# Altium schematic symbol library SolarCharger.SchLib: 27 symbols
Pins are listed as number, name and electrical type; pins without a type are passive.

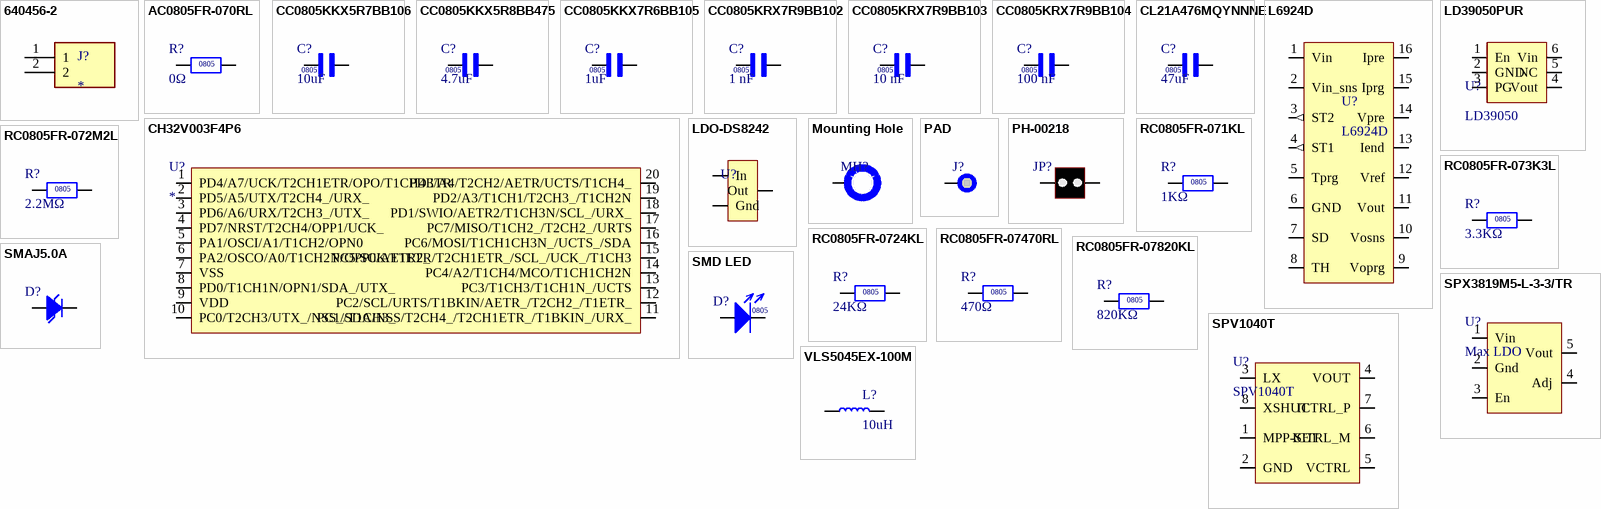
[diagram p0: symbols 640456-2 to VLS5045EX-100M]

## 640456-2
designator J?
1x2P 1 2.54mm 2 Copper Alloy Plugin,P=2.54mm Wire To Board / Wire To Wire Connector; Manufacturer: TE; Manufacturer Part Number: 640456-2; Supplier: LCSC; Supplier Part Number: C86502; Price: 0.0711; ComponentLink1Description: TE Connector; ComponentLink1URL: https://datasheet.lcsc.com/lcsc/2304140030_TE-Connectivity-640456-2_C86502.pdf
footprint TE_640456-2
pins: 1, 2

## AC0805FR-070RL
designator R?, comment 0Ω  Form: 0805
0 Ohm, 1%, 0.125W, 0805; Manufacturer: Yageo; Manufacturer Part Number: AC0805FR-070RL; Supplier: LCSC; Supplier Part Number: C174076; Price: 0.0039; ComponentLink1Description: Yageo Resistros; ComponentLink1URL: https://datasheet.lcsc.com/lcsc/2304140030_YAGEO-AC0805FR-070RL_C174076.pdf
footprint YAGEO-0805-R-L (Yageo Resistor Large Footprint)
pins: 1, 2

## CC0805KKX5R7BB106
designator C?, comment 10uF  Form: 0805
10 uF, 16 V, ± 10%, X5R, 0805; Manufacturer: Yageo; Manufacturer Part Number: CC0805KKX5R7BB106; ComponentLink5URL: http://www.yageo.com/documents/recent/UPY-GPHC_X5R_4V-to-50V_12.pdf?src-supplier=Avnet; ComponentLink5Description: Yageo Capacitors; Supplier: LCSC; Supplier Part Number: C89827; Price: 0.0419
footprint YAGEO-0805-C-L (Yageo Large Footprint)
pins: 1, 2

## CC0805KKX5R8BB475
designator C?, comment 4.7uF  Form: 0805
4.7 uF, 50 V, ± 10%, X5R, 0805; Manufacturer: Yageo; Manufacturer Part Number: CC0805KKX5R8BB475; ComponentLink1URL: https://datasheet.lcsc.com/lcsc/2304140030_YAGEO-CC0805KKX5R8BB475_C132173.pdf; ComponentLink1Description: Yageo Capacitors; Supplier: LCSC; Supplier Part Number: C132173; Price: 0.0335
footprint YAGEO-0805-C-L (Yageo Large Footprint)
pins: 1, 2

## CC0805KKX7R6BB105
designator C?, comment 1uF  Form: 0805
1 uF, 10 V, ± 10%, X7R, 0805; Manufacturer: Yageo; Manufacturer Part Number: CC0805KKX7R6BB105; ComponentLink10URL: https://datasheet.lcsc.com/lcsc/2007101233_YAGEO-CC0805KKX7R6BB105_C519973.pdf; ComponentLink10Description: Yageo Capacitors; Supplier: LSCS; Supplier Part Number: C519973; Price: 0.0116
footprint YAGEO-0805-C-L (Yageo Large Footprint)
pins: 1, 2

## CC0805KRX7R9BB102
designator C?, comment 1 nF  Form: 0805
1 nF,  50V, 10%, X7R, 0805; Manufacturer: Yageo; Manufacturer Part Number: CC0805KRX7R9BB102; ComponentLink6URL: https://datasheet.lcsc.com/lcsc/1810311439_YAGEO-CC0805KRX7R9BB102_C94121.pdf; ComponentLink6Description: Yageo Capacitors; Supplier: LCSC; Supplier Part Number: C94121; Price: 0.0047
footprint YAGEO-0805-C-L (Yageo Large Footprint)
pins: 1, 2

## CC0805KRX7R9BB103
designator C?, comment 10 nF  Form: 0805
10 nF, 50 V, ± 10%, X7R, 0805; Manufacturer: Yageo; Manufacturer Part Number: CC0805KRX7R9BB103; ComponentLink5URL: https://datasheet.lcsc.com/lcsc/2304140030_YAGEO-CC0805KRX7R9BB103_C83170.pdf; ComponentLink5Description: Yageo Capacitors; Supplier: LCSC; Supplier Part Number: C83170; Price: 0.0050
footprint YAGEO-0805-C-L (Yageo Large Footprint)
pins: 1, 2

## CC0805KRX7R9BB104
designator C?, comment 100 nF  Form: 0805
100 nF, 50 V, ± 10%, X7R, 0805; Manufacturer: Yageo; Manufacturer Part Number: CC0805KRX7R9BB104; ComponentLink1URL: https://datasheet.lcsc.com/lcsc/2304140030_YAGEO-CC0805KRX7R9BB104_C49678.pdf; ComponentLink1Description: Yageo Capacitors; Supplier: LCSC; Supplier Part Number: C49678; Price: 0.0047
footprint YAGEO-0805-C-L (Yageo Large Footprint)
pins: 1, 2

## CH32V003F4P6
designator U?
QingKe 32-bit RISC-V2A, 48MHz, 2KB SRAM, 16KB Flash, 3.3/5V, TSSOP20; Manufacturer: WCH(Jiangsu Qin Heng); Manufacturer Part Number: CH32V003F4P6-EVT+WCH-LinkE; Price: 0.2
footprint MCU-CH32-TSOP20-L (CH32V003 Risc-V MCU, TSOP)
pins: 1 PD4/A7/UCK/T2CH1ETR/OPO/T1CH4ETR, 2 PD5/A5/UTX/T2CH4_/URX_, 3 PD6/A6/URX/T2CH3_/UTX_, 4 PD7/NRST/T2CH4/OPP1/UCK_, 5 PA1/OSCI/A1/T1CH2/OPN0, 6 PA2/OSCO/A0/T1CH2N/OPP0/AETR2_, 7 VSS, 8 PD0/T1CH1N/OPN1/SDA_/UTX_, 9 VDD, 10 PC0/T2CH3/UTX_/NSS_/T1CH3_, 11 PC1/SDA/NSS/T2CH4_/T2CH1ETR_/T1BKIN_/URX_, 12 PC2/SCL/URTS/T1BKIN/AETR_/T2CH2_/T1ETR_, 13 PC3/T1CH3/T1CH1N_/UCTS, 14 PC4/A2/T1CH4/MCO/T1CH1CH2N, 15 PC5/SCK/T1ETR/T2CH1ETR_/SCL_/UCK_/T1CH3, 16 PC6/MOSI/T1CH1CH3N_/UCTS_/SDA, 17 PC7/MISO/T1CH2_/T2CH2_/URTS, 18 PD1/SWIO/AETR2/T1CH3N/SCL_/URX_, 19 PD2/A3/T1CH1/T2CH3_/T1CH2N, 20 PD3/A4/T2CH2/AETR/UCTS/T1CH4_

## CL21A476MQYNNNE
designator C?, comment 47uF  Form: 0805
47 uF, 6.3 V, ± 20%, X5R, 0805; Manufacturer: Samsung; Manufacturer Part Number: CL21A476MQYNNNE; ComponentLink1URL: https://datasheet.lcsc.com/lcsc/2304140030_Samsung-Electro-Mechanics-CL21A476MQYNNNE_C16780.pdf; ComponentLink1Description: Samsung SMD Capacitor; Supplier: LCSC; Supplier Part Number: C16780; Price: 0.0273
footprint YAGEO-0805-C-L (Yageo Large Footprint)
pins: 1, 2

## L6924D
designator U?
Battery Charger Li-Ion/Li-Pol 30mA 4.1V 16-Pin VFQFPN EP; Manufacturer: STMicroelectronics; Max Supply Voltage: 12V; Min Supply Voltage: 2.5V; Number of Cells: 1; Max Charge Current: 1A; Supplier: Digi-Key; Supplier Part Number: L6924D-ND; Manufacturer Part Number: L6924D; RoHS: Yes; Category: Battery Management; Pricing: 2000=0.9585 (USD); Mounting Technology: Surface Mount; Pins: 16; Min Operating Temperature: -40°C; Max Operating Temperature: 125°C; Series: -; Packaging: Rail/Tube; Package Quantity: 100; Output Voltage: 4.1V; Output Current: 30mA; Length: 3mm; Width: 3mm; Height: 0.88mm; Radiation Hardening: No; Reach SVHC Compliant: No; RoHS Compliant: Yes; ComponentLink1URL: https://datasheet.ciiva.com/15114/getdatasheetpartid-131731-15114450.pdf?src-supplier=Verical; ComponentLink1Description: https://datasheet.ciiva.com/15114/getdatasheetpartid-131731-15114450.pdf?src-supplier=Verical; ComponentLink2URL: https://datasheet.ciiva.com/14632/0900766b80dafbb8-14632423.pdf?src-supplier=Allied+Electronics; ComponentLink2Description: https://datasheet.ciiva.com/14632/0900766b80dafbb8-14632423.pdf?src-supplier=Allied+Electronics; ComponentLink3URL: https://datasheet.ciiva.com/1137/cd00079821-1137146.pdf?src-supplier=Element14; ComponentLink3Description: https://datasheet.ciiva.com/1137/cd00079821-1137146.pdf?src-supplier=Element14; ComponentLink4URL: https://datasheet.ciiva.com/3213/cd00079821-3213355.pdf?src-supplier=Avnet; ComponentLink4Description: https://datasheet.ciiva.com/3213/cd00079821-3213355.pdf?src-supplier=Avnet; ComponentLink5URL: https://datasheet.ciiva.com/1934/cd00079821-1934461.pdf?src-supplier=Digi-Key; ComponentLink5Description: https://datasheet.ciiva.com/1934/cd00079821-1934461.pdf?src-supplier=Digi-Key
footprint QFN50P300X300X100-17L-D
pins: 1 Vin, 2 Vin_sns, 3 ST2 (out), 4 ST1 (out), 5 Tprg, 6 GND, 7 SD, 8 TH, 9 Voprg, 10 Vosns, 11 Vout, 12 Vref, 13 Iend, 14 Vpre, 15 Iprg, 16 Ipre

## LD39050PUR
designator U?, comment LD39050
ST LDO 0.5A; Manufacturer: STMicroelectronics; Manufacturer Part Number: LD39050PUR; Max Supply Voltage: 5.5V; Min Input Voltage: 1.5V; Number of Outputs: 1; Max Output current: 500mA; Polarity: Positive; Quiescent Current: 50uA; Accuracy: 2%; Output Type: Adjustable; Output Voltage: 800mV; Dropout Voltage: 200mV; Input Bias Current: 20uA; Supplier: Digi-Key; Supplier Part Number: 497-8717-1-ND; RoHS: Yes; Category: Voltage Regulators - Linear; Stock: 42072; Pricing: 1=1.41, 10=1.264, 25=1.2004, 100=0.9859, 250=0.9216, 500=0.81442, 1000=0.64297 (USD); Mounting Technology: Surface Mount; Case/Package: DFN; Pins: 6; Min Operating Temperature: -40°C; Max Operating Temperature: 125°C; Packaging: Tape and Reel; Output Current: 500mA; Number of Regulators: 1; Min Output Voltage: 800mV; Series: -; Package Quantity: 1; Output Voltage Accuracy: 2%; Length: 3.1mm; Width: 3.1mm; Height: 0.95mm; Radiation Hardening: No; RoHS Compliant: Yes; Lead Free: Lead Free; ComponentLink1URL: https://datasheet.ciiva.com/4886/cd00227527-88058-4886818.pdf?src-supplier=Mouser; ComponentLink1Description: https://datasheet.ciiva.com/4886/cd00227527-88058-4886818.pdf?src-supplier=Mouser; ComponentLink2URL: https://datasheet.ciiva.com/41441/001186050-da-01-en-ic-reg-ldo-adj-0-5-ld39050pur-vdfn-6-stm-41441149.pdf?src-supplier=Conrad; ComponentLink2Description: https://datasheet.ciiva.com/41441/001186050-da-01-en-ic-reg-ldo-adj-0-5-ld39050pur-vdfn-6-stm-41441149.pdf?src-supplier=Conrad; ComponentLink3URL: https://datasheet.ciiva.com/2043/cd00227527-2043267.pdf?src-supplier=Digi-Key; ComponentLink3Description: https://datasheet.ciiva.com/2043/cd00227527-2043267.pdf?src-supplier=Digi-Key; ComponentLink4URL: https://datasheet.ciiva.com/2043/cd00227527-2043266.pdf?src-supplier=Digi-Key; ComponentLink4Description: https://datasheet.ciiva.com/2043/cd00227527-2043266.pdf?src-supplier=Digi-Key; ComponentLink5URL: https://datasheet.ciiva.com/2043/cd00227527-2043268.pdf?src-supplier=Digi-Key; ComponentLink5Description: https://datasheet.ciiva.com/2043/cd00227527-2043268.pdf?src-supplier=Digi-Key; ComponentLink6URL: https://datasheet.ciiva.com/8228/cd00227527-8228829.pdf?src-supplier=Avnet; ComponentLink6Description: https://datasheet.ciiva.com/8228/cd00227527-8228829.pdf?src-supplier=Avnet
footprint DFN6
pins: 1 En, 2 GND, 3 PG, 4 Vout, 5 NC, 6 Vin

## LDO-DS8242
designator U?
500mA 70dB@(1kHz) null 3.3V positive 35V SOT-23 LDS; Manufacturer: DSTECH; Manufacturer Part Number: DS8242-33SS3; Supplier: LCSC; Supplier Part Number: C5884134; ComponentLink1Description: DSTECH LDO; ComponentLink1URL: https://datasheet.lcsc.com/lcsc/2306301041_DSTECH-DS8242-33SS3_C5884134.pdf; Price: 0.0287
footprint LDO-DSTECH-L (LDO DSTECH Low Density)
pins: 1 In, 2 Gnd, 3 Out

## Mounting Hole
designator MH?  (value not drawn)  (no BOM)
Mounting hole 7.4mm x 3.2mm
footprint Mounting Hole
pins: 1

## PAD
designator J?, comment Power Pad  (value not drawn)  (no BOM)
Power pad 4mmx1.5mm
footprint PAD
pins: 1

## PH-00218
designator JP?, comment J2P  (value not drawn)
2.5mm 3A  2P Straight Square Pins 6mm -40℃~+105℃ 3mm 2.54mm Plugin Black 1x2P Plugin,P=2.54mm Pin Header; Manufacturer: Liasheng; Manufacturer Part Number: PH-00218; Supplier: LCSC; Supplier Part Number: C2685144; ComponentLink1Description: https://datasheet.lcsc.com/lcsc/2106070303_Liansheng-PH-00218_C2685144.pdf; ComponentLink1URL: https://datasheet.lcsc.com/lcsc/2106070303_Liansheng-PH-00218_C2685144.pdf; Price: 0.0109
footprint DIP2
pins: 1, 2

## RC0805FR-071KL
designator R?, comment 1KΩ  Form: 0805
1 kOhm, ± 1%, 125 mW, 0805; Manufacturer: Yageo; Manufacturer Part Number: RC0805FR-071KL; Supplier: LCSC; Supplier Part Number: C95781; ComponentLink1URL: https://www.yageo.com/upload/media/product/productsearch/datasheet/rchip/PYu-RC_Group_51_RoHS_L_12.pdf; ComponentLink1Description: Yageo Resistors; Price: 0.0022
footprint YAGEO-0805-R-L (Yageo Resistor Large Footprint)
pins: 1, 2

## RC0805FR-072M2L
designator R?, comment 2.2MΩ  Form: 0805
2.2 MOhm, ± 1%, 125 mW, 0805; Manufacturer: Yageo; Manufacturer Part Number: RC0805FR-072M2L; Supplier: LCSC; Supplier Part Number: C137552; Price: 0.0022; ComponentLink1Description: Yageo Resistors; ComponentLink1URL: https://datasheet.lcsc.com/lcsc/2304140030_YAGEO-RC0805FR-072M2L_C137552.pdf
footprint YAGEO-0805-R-L (Yageo Resistor Large Footprint)
pins: 1, 2

## RC0805FR-073K3L
designator R?, comment 3.3KΩ  Form: 0805
3.3 kOhm, ± 1%, 125 mW, 0805; Manufacturer: Yageo; Manufacturer Part Number: RC0805FR-073K3L; Supplier: LCSC; Supplier Part Number: C114531; Price: 0.0023; ComponentLink1Description: Yageo Resistors; ComponentLink1URL: https://datasheet.lcsc.com/lcsc/2304140030_YAGEO-RC0805FR-073K3L_C114531.pdf
footprint YAGEO-0805-R-L (Yageo Resistor Large Footprint)
pins: 1, 2

## RC0805FR-0724KL
designator R?, comment 24KΩ  Form: 0805
24 kOhm, ± 1%, 125 mW, 0805; Manufacturer: Yageo; Manufacturer Part Number: RC0805FR-0724KL; Supplier: LCSC; Supplier Part Number: C137562; Price: 0.0020; ComponentLink1Description: Yageo Resistors; ComponentLink1URL: https://datasheet.lcsc.com/lcsc/2304140030_YAGEO-RC0805FR-0724KL_C137562.pdf
footprint YAGEO-0805-R-L (Yageo Resistor Large Footprint)
pins: 1, 2

## RC0805FR-07470RL
designator R?, comment 470Ω  Form: 0805
470 Ohm, ± 1%, 125 mW, 0805; Manufacturer: Yageo; Manufacturer Part Number: RC0805FR-07470RL; Supplier: LCSC; Supplier Part Number: C114564; ComponentLink1URL: https://datasheet.lcsc.com/lcsc/2304140030_YAGEO-RC0805FR-07470RL_C114564.pdf; ComponentLink1Description: Yageo Resistors; Price: 0.0020
footprint YAGEO-0805-R-L (Yageo Resistor Large Footprint)
pins: 1, 2

## RC0805FR-07820KL
designator R?, comment 820KΩ  Form: 0805
820 kOhm, ± 1%, 125 mW, 0805; Manufacturer: Yageo; Manufacturer Part Number: RC0805FR-07820KL; Supplier: LCSC; Supplier Part Number: C141700; ComponentLink1Description: Yageo Resistors; ComponentLink1URL: https://datasheet.lcsc.com/lcsc/2304140030_YAGEO-RC0805FR-07820KL_C141700.pdf; Price: 0.0021
footprint YAGEO-0805-R-L (Yageo Resistor Large Footprint)
pins: 1, 2

## SMAJ5.0A
designator D?, comment TVS-MSKSEMI  (value not drawn)
TVS 9.2V 6.4V 5V SMA; Manufacturer Part Number: SMAJ5.0A; Manufacturer: MSKSEMI; Supplier: LCSC; Supplier Part Number: C5189780; Price: 0.0220; ComponentLink1Description: MSKSEMI SMAJXXXA; ComponentLink1URL: https://datasheet.lcsc.com/lcsc/2309270936_MSKSEMI-SMAJ5-0A_C5189780.pdf
footprint MSKSEMI-TVS-L (MSKSEMI TVS Large footprint)
pins: 1, 2

## SMD LED
designator D?  Form: 0805  (hidden comment: SMD LED)
516nm~525nm -30℃~+85℃ Positive post Emerald 120° 80mW 0805; Manufacturer: XINGLIGHT; Manufacturer Part Number: XL-2012UGC; Supplier: LCSC; Supplier Part Number: C965815; Price: 0.0049; ComponentLink1Description: XINGLIGHT SMD LED; ComponentLink1URL: https://datasheet.lcsc.com/lcsc/2211030000_XINGLIGHT-XL-2012UGC_C965815.pdf
footprint SMD-LED-L (SMD LED Low Density)
pins: 1, 2

## SPV1040T
designator U?
IC BATTERY CHARGER SOLAR 8TSSOP; Manufacturer: STMicroelectronics; Supplier: Digi-Key; Supplier Part Number: 497-11417-ND; Manufacturer Part Number: SPV1040T; RoHS: Yes; Category: Battery Management; Stock: 1452; Pricing: 1=4.46, 10=4.002, 25=3.784, 100=3.2793, 250=3.11112, 500=2.7916, 1000=2.35437, 2500=2.23665 (USD); ComponentLink1URL: https://datasheet.ciiva.com/15114/getdatasheetpartid-464486-15114755.pdf?src-supplier=Verical; ComponentLink1Description: https://datasheet.ciiva.com/15114/getdatasheetpartid-464486-15114755.pdf?src-supplier=Verical; ComponentLink2URL: https://datasheet.ciiva.com/1932/cd00287506-1932586.pdf?src-supplier=Digi-Key; ComponentLink2Description: https://datasheet.ciiva.com/1932/cd00287506-1932586.pdf?src-supplier=Digi-Key; ComponentLink3URL: https://datasheet.ciiva.com/4878/cd00287506-4878671.pdf?src-supplier=Mouser; ComponentLink3Description: https://datasheet.ciiva.com/4878/cd00287506-4878671.pdf?src-supplier=Mouser
footprint SOP65P640X120-8N
pins: 1 MPP-SET (power), 2 GND, 3 LX (power), 4 VOUT (power), 5 VCTRL (power), 6 ICTRL_M (power), 7 ICTRL_P (power), 8 XSHUT (power)

## SPX3819M5-L-3-3/TR
designator U?, comment Max LDO
SPX3819 Series 3.3 V 500 mA Fixed Output SMT LDO Regulator - SOT-23-5; Manufacturer: MaxLinear; Manufacturer Part Number: SPX3819M5-L-3-3/TR; Supplier: LCSC; Supplier Part Number: C9055; Mounting Technology: Surface Mount; Form: SOT-23-5; ComponentLink1URL: https://www.maxlinear.com/document?id=22106&src-supplier=Digi-Key; ComponentLink1Description: Maxlinear LDO; Price: 0.1307
footprint LDO-SPX3819-L (SPX3819 LDO Low Density)
pins: 1 Vin, 2 Gnd, 3 En, 4 Adj, 5 Vout

## VLS5045EX-100M
designator L?, comment 10uH
10 uH Power Inductor 20% 100KHz Ferrite 2.5A 0.061Ohm; Manufacturer: TDK; Manufacturer Part Number: VLS5045EX-100M; Supplier: LCSC; Supplier Part Number: C404485; Price: 0.1245; ComponentLink1Description: TDK Power Inductor; ComponentLink1URL: https://datasheet.lcsc.com/lcsc/2304140030_TDK-VLS5045EX-100M_C404485.pdf
footprint Bead 10uH
pins: 1, 2